# Altium footprint library 2440PCBV50.PcbLib: 115 footprints (part 2 of 8)
Each footprint in its own frame and in the unit in brackets; x right, y up, seen from the top. Pads: shape width x height; smd on the part's side, far side on the other; paste and mask are expansions set on the pad; w line width, h text height; cw(c..) or ccw(c..) is an arc to the next point about the centre after c.
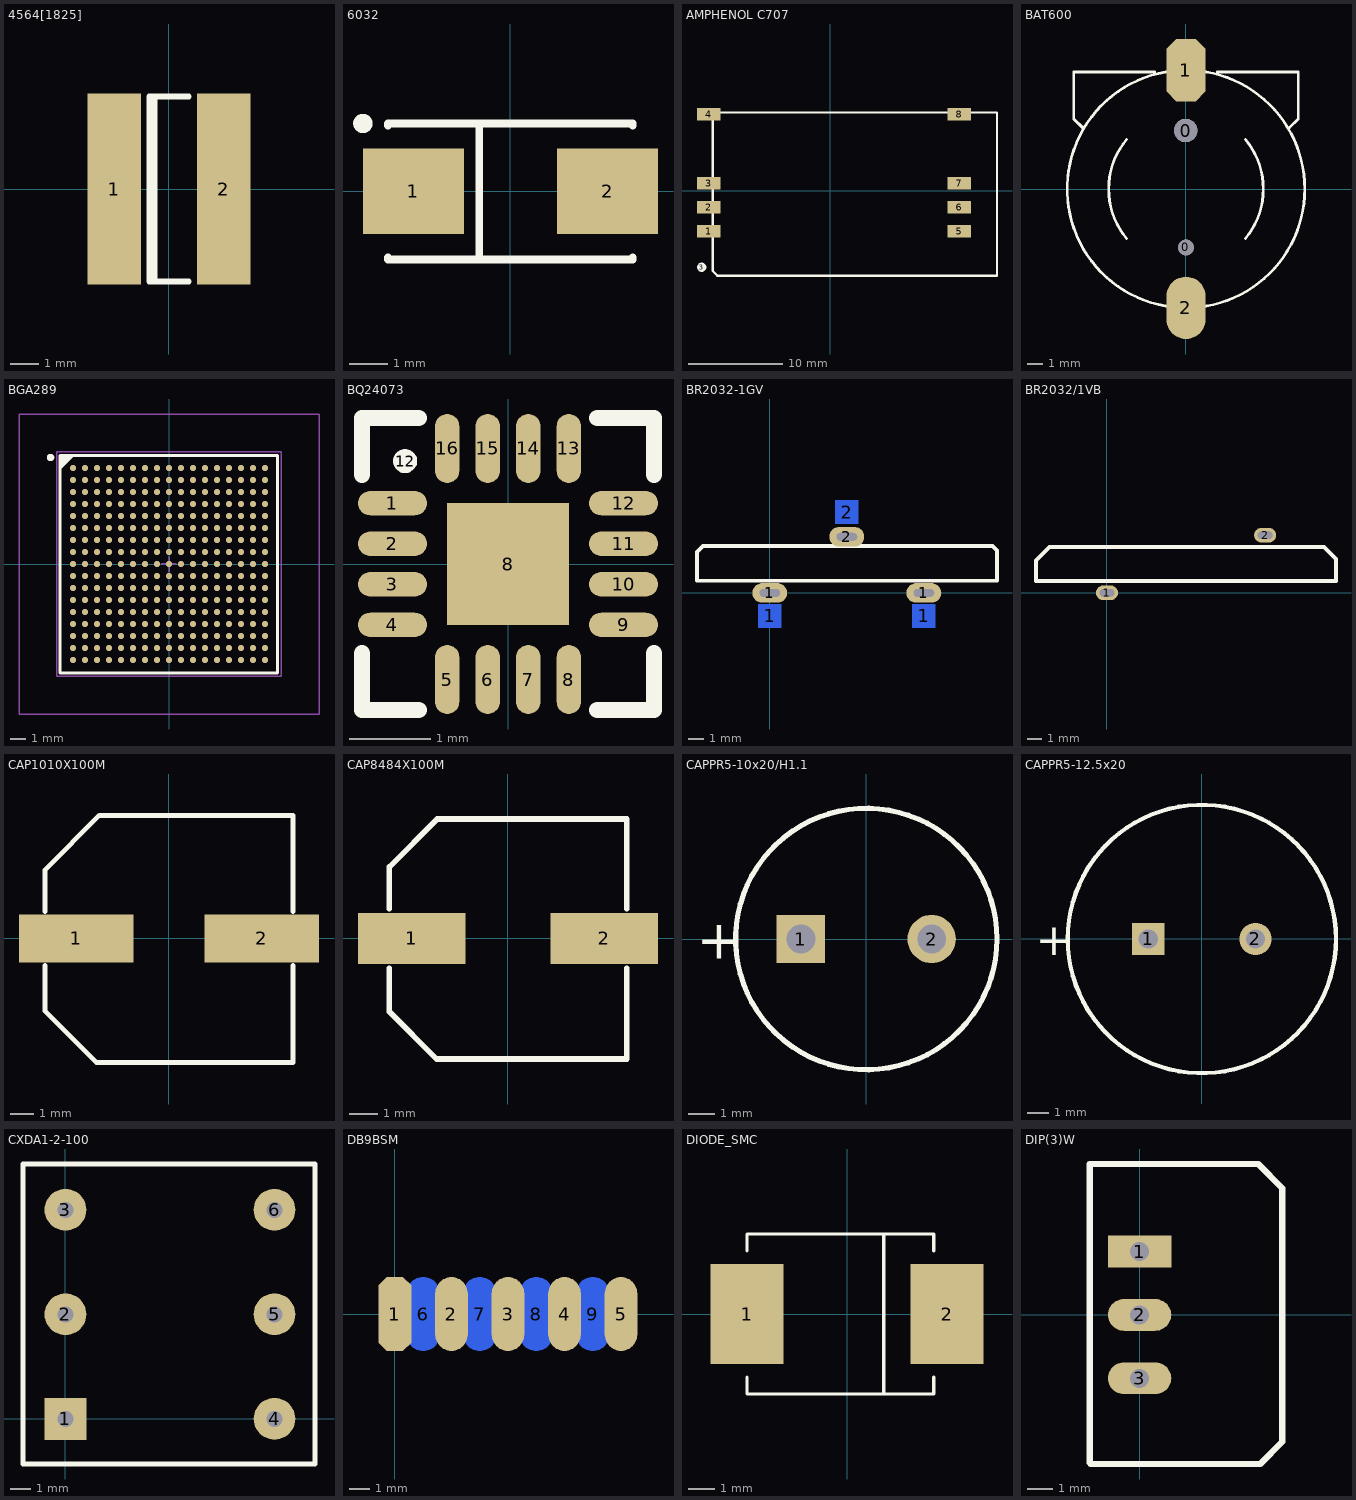
[diagram p1: the footprints below, top view; thin cyan lines are the x and y axes]

## 4564[1825] [mm] "Chip Capacitor; Body 4.5 x 6.4 mm (LxW typ)"
height 1.1
pads (2):
  rect 1.9x6.8 smd: 1(-1.95,0) 2(1.95,0)
Top Overlay:
  lines w0.2: -0.51,-3.3 -0.51,3.3 ; 0.7,-3.3 -0.7,-3.3 -0.7,3.3 0.7,3.3

## 6032 [mm]
height 3.4
pads (2):
  rect 2.6x2.2 smd: 1(-2.5,0) 2(2.5,0)
Top Overlay:
  circle w0.25: c-3.8,1.75 r0.125
  lines w0.2: -3.15,-1.7 -3.15,-1.75 3.15,-1.75 3.15,-1.7 ; -3.15,1.7 -3.15,1.75 3.15,1.75 3.15,1.7 ; -0.8,-1.75 -0.8,1.75
3D body: height 2.22, standoff -0.47, extent -3.13,-1.556 3.055,1.649

## AMPHENOL C707 [mm]
pads (9):
  rect 2.5x1.3 smd: 1(-12.869,-4.295) 2(-12.869,-1.755) 3(-12.869,0.785) 4(-12.869,8.105) 5(13.631,-4.295) 6(13.631,-1.755) 7(13.631,0.785) 8(13.631,8.105)
  round 1 on Top Overlay: 3(-13.631,-8.105)
Top Overlay:
  lines w0.254: -12.469,-8.505 -11.98,-8.994 17.631,-8.994 17.631,8.278 -11.98,8.278 -12.469,7.789 -12.469,7.77 -12.469,-8.505

## BAT600 [mm]
pads (4):
  round 1.5 hole 1.5 unplated: 0(-0.012,3.75)
  round 1 hole 1 unplated: 0(0.012,-3.75)
  oct 2.5x4 smd: 1(0.012,7.62)
  oval 2.5x4 smd: 2(0.012,-7.62)
Top Overlay:
  lines w0.178: -6.612,3.925 -7.187,4.5 -7.187,7.5 -1.987,7.5 ; -3.8,-3.172 cw(c0.013,0) -3.797,3.175 ; -0.821,-7.574 cw(c0.013,0) -0.821,7.574 ; 0.846,-7.574 ccw(c0.013,0) 7.633,0 ccw(c0.013,0) 0.846,7.574 ; 2.012,7.5 7.212,7.5 7.212,4.5 6.612,3.9 ; 3.825,-3.172 ccw(c0.013,0) 3.827,3.169
3D body: height 3.5, standoff 0, extent -7.62,-7.574 7.62,7.5

## BGA289 [mm] "BGA, 289-Leads, Body 14."
height 1.22
pads (289):
  round 0.4 smd: A1(-6.4,6.4) A2(-5.6,6.4) A3(-4.8,6.4) A4(-4,6.4) A5(-3.2,6.4) A6(-2.4,6.4) A7(-1.6,6.4) A8(-0.8,6.4) A9(0,6.4) A10(0.8,6.4) A11(1.6,6.4) A12(2.4,6.4) A13(3.2,6.4) A14(4,6.4) A15(4.8,6.4) A16(5.6,6.4) A17(6.4,6.4) B1(-6.4,5.6) B2(-5.6,5.6) B3(-4.8,5.6) B4(-4,5.6) B5(-3.2,5.6) B6(-2.4,5.6) B7(-1.6,5.6) B8(-0.8,5.6) B9(0,5.6) B10(0.8,5.6) B11(1.6,5.6) B12(2.4,5.6) B13(3.2,5.6) B14(4,5.6) B15(4.8,5.6) B16(5.6,5.6) B17(6.4,5.6) C1(-6.4,4.8) C2(-5.6,4.8) C3(-4.8,4.8) C4(-4,4.8) C5(-3.2,4.8) C6(-2.4,4.8) C7(-1.6,4.8) C8(-0.8,4.8) C9(0,4.8) C10(0.8,4.8) C11(1.6,4.8) C12(2.4,4.8) C13(3.2,4.8) C14(4,4.8) C15(4.8,4.8) C16(5.6,4.8) C17(6.4,4.8) D1(-6.4,4) D2(-5.6,4) D3(-4.8,4) D4(-4,4) D5(-3.2,4) D6(-2.4,4) D7(-1.6,4) D8(-0.8,4) D9(0,4) D10(0.8,4) D11(1.6,4) D12(2.4,4) D13(3.2,4) D14(4,4) D15(4.8,4) D16(5.6,4) D17(6.4,4) E1(-6.4,3.2) E2(-5.6,3.2) E3(-4.8,3.2) E4(-4,3.2) E5(-3.2,3.2) E6(-2.4,3.2) E7(-1.6,3.2) E8(-0.8,3.2) E9(0,3.2) E10(0.8,3.2) E11(1.6,3.2) E12(2.4,3.2) E13(3.2,3.2) E14(4,3.2) E15(4.8,3.2) E16(5.6,3.2) E17(6.4,3.2) F1(-6.4,2.4) F2(-5.6,2.4) F3(-4.8,2.4) F4(-4,2.4) F5(-3.2,2.4) F6(-2.4,2.4) F7(-1.6,2.4) F8(-0.8,2.4) F9(0,2.4) F10(0.8,2.4) F11(1.6,2.4) F12(2.4,2.4) F13(3.2,2.4) F14(4,2.4) F15(4.8,2.4) F16(5.6,2.4) F17(6.4,2.4) G1(-6.4,1.6) G2(-5.6,1.6) G3(-4.8,1.6) G4(-4,1.6) G5(-3.2,1.6) G6(-2.4,1.6) G7(-1.6,1.6) G8(-0.8,1.6) G9(0,1.6) G10(0.8,1.6) G11(1.6,1.6) G12(2.4,1.6) G13(3.2,1.6) G14(4,1.6) G15(4.8,1.6) G16(5.6,1.6) G17(6.4,1.6) H1(-6.4,0.8) H2(-5.6,0.8) H3(-4.8,0.8) H4(-4,0.8) H5(-3.2,0.8) H6(-2.4,0.8) H7(-1.6,0.8) H8(-0.8,0.8) H9(0,0.8) H10(0.8,0.8) H11(1.6,0.8) H12(2.4,0.8) H13(3.2,0.8) H14(4,0.8) H15(4.8,0.8) H16(5.6,0.8) H17(6.4,0.8) J1(-6.4,0) J2(-5.6,0) J3(-4.8,0) J4(-4,0) J5(-3.2,0) J6(-2.4,0) J7(-1.6,0) J8(-0.8,0) J9(0,0) J10(0.8,0) J11(1.6,0) J12(2.4,0) J13(3.2,0) J14(4,0) J15(4.8,0) J16(5.6,0) J17(6.4,0) K1(-6.4,-0.8) K2(-5.6,-0.8) K3(-4.8,-0.8) K4(-4,-0.8) K5(-3.2,-0.8) K6(-2.4,-0.8) K7(-1.6,-0.8) K8(-0.8,-0.8) K9(0,-0.8) K10(0.8,-0.8) K11(1.6,-0.8) K12(2.4,-0.8) K13(3.2,-0.8) K14(4,-0.8) K15(4.8,-0.8) K16(5.6,-0.8) K17(6.4,-0.8) L1(-6.4,-1.6) L2(-5.6,-1.6) L3(-4.8,-1.6) L4(-4,-1.6) L5(-3.2,-1.6) L6(-2.4,-1.6) L7(-1.6,-1.6) L8(-0.8,-1.6) L9(0,-1.6) L10(0.8,-1.6) L11(1.6,-1.6) L12(2.4,-1.6) L13(3.2,-1.6) L14(4,-1.6) L15(4.8,-1.6) L16(5.6,-1.6) L17(6.4,-1.6) M1(-6.4,-2.4) M2(-5.6,-2.4) M3(-4.8,-2.4) M4(-4,-2.4) M5(-3.2,-2.4) M6(-2.4,-2.4) M7(-1.6,-2.4) M8(-0.8,-2.4) M9(0,-2.4) M10(0.8,-2.4) M11(1.6,-2.4) M12(2.4,-2.4) M13(3.2,-2.4) M14(4,-2.4) M15(4.8,-2.4) M16(5.6,-2.4) M17(6.4,-2.4) N1(-6.4,-3.2) N2(-5.6,-3.2) N3(-4.8,-3.2) N4(-4,-3.2) N5(-3.2,-3.2) N6(-2.4,-3.2) N7(-1.6,-3.2) N8(-0.8,-3.2) N9(0,-3.2) N10(0.8,-3.2) N11(1.6,-3.2) N12(2.4,-3.2) N13(3.2,-3.2) N14(4,-3.2) N15(4.8,-3.2) N16(5.6,-3.2) N17(6.4,-3.2) P1(-6.4,-4) P2(-5.6,-4) P3(-4.8,-4) P4(-4,-4) P5(-3.2,-4) P6(-2.4,-4) P7(-1.6,-4) P8(-0.8,-4) P9(0,-4) P10(0.8,-4) P11(1.6,-4) P12(2.4,-4) P13(3.2,-4) P14(4,-4) P15(4.8,-4) P16(5.6,-4) P17(6.4,-4) R1(-6.4,-4.8) R2(-5.6,-4.8) R3(-4.8,-4.8) R4(-4,-4.8) R5(-3.2,-4.8) R6(-2.4,-4.8) R7(-1.6,-4.8) R8(-0.8,-4.8) R9(0,-4.8) R10(0.8,-4.8) R11(1.6,-4.8) R12(2.4,-4.8) R13(3.2,-4.8) R14(4,-4.8) R15(4.8,-4.8) R16(5.6,-4.8) R17(6.4,-4.8) T1(-6.4,-5.6) T2(-5.6,-5.6) T3(-4.8,-5.6) T4(-4,-5.6) T5(-3.2,-5.6) T6(-2.4,-5.6) T7(-1.6,-5.6) T8(-0.8,-5.6) T9(0,-5.6) T10(0.8,-5.6) T11(1.6,-5.6) T12(2.4,-5.6) T13(3.2,-5.6) T14(4,-5.6) T15(4.8,-5.6) T16(5.6,-5.6) T17(6.4,-5.6) U1(-6.4,-6.4) U2(-5.6,-6.4) U3(-4.8,-6.4) U4(-4,-6.4) U5(-3.2,-6.4) U6(-2.4,-6.4) U7(-1.6,-6.4) U8(-0.8,-6.4) U9(0,-6.4) U10(0.8,-6.4) U11(1.6,-6.4) U12(2.4,-6.4) U13(3.2,-6.4) U14(4,-6.4) U15(4.8,-6.4) U16(5.6,-6.4) U17(6.4,-6.4)
Top Overlay:
  circle w0.25: c-7.9,7.1 r0.125
  region: -6.399,7.25 -7.25,6.399 -7.25,7.25
  lines w0.2: -7.25,6.399 -6.399,7.25 ; -7.25,-7.25 7.25,-7.25 7.25,7.25 -7.25,7.25 -7.25,-7.25
Mechanical 1:
  lines w0.1: -10,-10 10,-10 10,10 -10,10 -10,-10
Mechanical 13:
  lines w0.1: -7.25,-7.25 7.25,-7.25 7.25,7.25 -7.25,7.25 -7.25,-7.25
Mechanical 15:
  lines w0.1: -0.5,0 0.5,0 ; 0,-0.5 0,0.5 ; -7.5,-7.5 7.5,-7.5 7.5,7.5 -7.5,7.5 -7.5,-7.5
3D body: height 1.22, standoff 0.35, extent -7.25,-7.25 7.25,7.25

## BQ24073 [mm]
pads (23):
  oval 0.85x0.3 smd: 1(-1.425,0.75) 2(-1.425,0.25) 3(-1.425,-0.25) 4(-1.425,-0.75) 9(1.425,-0.75) 10(1.425,-0.25) 11(1.425,0.25) 12(1.425,0.75)
  oval 0.3x0.85 smd: 5(-0.75,-1.425) 6(-0.25,-1.425) 7(0.25,-1.425) 8(0.75,-1.425) 13(0.75,1.425) 14(0.25,1.425) 15(-0.25,1.425) 16(-0.75,1.425)
  rect 1.5x1.5 smd: 8(0,0)
  round 0.3 on Top Overlay: 12(-1.27,1.27)
  round 0.25 all layers, no hole: ""(-0.508,-0.508) ""(-0.508,0.508) ""(0,0) ""(0.508,-0.508) ""(0.508,0.508)
Top Overlay:
  lines w0.2: -1.8,-1.1 -1.8,-1.8 -1.1,-1.8 ; -1.8,1.1 -1.8,1.8 -1.1,1.8 ; 1.1,-1.8 1.8,-1.8 1.8,-1.1 ; 1.1,1.8 1.8,1.8 1.8,1.1

## BR2032-1GV [mm] "CR2032-1GV"
pads (6):
  rect 1.52x1.524 smd far side: 1(0,-1.524) 1(10.16,-1.524) 2(5.08,5.334)
  oval 2.3x1.3 hole 0.5 slot 1.35 at 0 deg: 1(0,0) 1(10.16,0) 2(5.08,3.7)
Top Overlay:
  lines w0.254: -4.8,0.8 -4.8,2.693 -4.393,3.1 14.68,3.1 14.986,2.794 14.986,0.8 -4.8,0.8
3D body: height 21.51, standoff -3.5, extent -4.928,-0.101 15.088,3.707

## BR2032/1VB [mm] "BR/CR2032/1VB"
pads (2):
  oval 1.5x1 hole 0.5 slot 1 at 0 deg: 1(0,0) 2(10.7,3.9)
Top Overlay:
  lines w0.254: -4.8,0.8 -4.8,2.185 -3.885,3.1 14.68,3.1 15.494,2.286 15.494,0.8 -4.8,0.8
3D body: height 21.51, standoff -3.5, extent -4.673,0.153 15.342,3.961

## CAP1010X100M [mm]
height 10
pads (2):
  rect 4.8x2 smd: 1(-3.9,0) 2(3.9,0)
Top Overlay:
  lines w0.2: -5.207,-1.125 -5.207,-3.049 -3.042,-5.214 5.207,-5.214 5.207,-1.125 ; -5.207,1.125 -5.207,2.891 -2.929,5.169 5.207,5.169 5.207,1.125
3D body: height 10.2, standoff 0, extent -5.839,-5.19 5.761,5.11

## CAP8484X100M [mm]
height 10
pads (2):
  rect 3.8x1.8 smd: 1(-3.4,0) 2(3.4,0)
Top Overlay:
  lines w0.2: -4.191,-1.05 -4.191,-2.594 -2.522,-4.263 4.191,-4.263 4.191,-1.05 ; -4.191,1.05 -4.191,2.527 -2.499,4.219 4.191,4.219 4.191,1.05
3D body: height 6.2, standoff 0, extent -4.554,-4.155 4.446,4.145

## CAPPR5-10x20/H1.1 [mm] "Capacitor, Electrolytic, Radial; Body 10 x 20 mm (Dia.xH typ); Pin Spacing 5 mm (typ)"
height 21
pads (2):
  rect 1.85x1.85 hole 1.1: 1(-2.5,0)
  round 1.85 hole 1.1: 2(2.5,0)
Top Overlay:
  circle w0.2: c0,0 r5
  text "+" at -6.475,-0.75 h1.5

## CAPPR5-12.5x20 [mm] "Capacitor, Electrolytic, Radial; Body 12.5 x 20 mm (Dia.xH typ); Pin Spacing 5 mm (typ)"
height 21.5
pads (2):
  rect 1.5x1.5 hole 0.9: 1(-2.5,0)
  round 1.5 hole 0.9: 2(2.5,0)
Top Overlay:
  circle w0.2: c0,0 r6.25
  text "+" at -7.725,-0.75 h1.5

## CXDA1-2-100 [mm]
pads (6):
  rect 2x2 hole 0.762: 1(0,0)
  round 2 hole 0.762: 2(0,5) 3(0,10) 4(10,0) 5(10,5) 6(10,10)
Top Overlay:
  lines w0.254: -2.032,-2.159 -2.032,12.192 11.938,12.192 11.938,-2.159 -2.032,-2.159

## DB9BSM [mil]
pads (9):
  oct 62.5x141.67 smd: 1(0,0)
  oval 62.5x141.67 smd: 2(108.33,0) 3(216.67,0) 4(325,0) 5(433.33,0)
  oval 62.5x141.67 smd far side: 6(54.17,0) 7(162.5,0) 8(270.83,0) 9(379.17,0)

## DIODE_SMC [mil] "DO-214-AB/SMC; 2 C-Bend Leads; Body 7.9 x 5.9 mm, inc. leads (LxW)"
pads (2):
  rect 110x150 smd: 1(-150,0) 2(150,0)
Top Overlay:
  lines w5: -150,-95 -150,-120 130,-120 130,-95 ; -150,95 -150,120 130,120 130,95 ; 55,-120 55,120
3D body: height 50, standoff -54, extent -168.27,-124.38 151.73,123.62

## DIP(3)W [mil]
pads (3):
  rect 100x50 hole 30: 1(0,100)
  oval 100x50 hole 30: 2(0,0) 3(0,-100)
Top Overlay:
  lines w10: -78.74,-233.26 -78.74,238 187,238 225,200 225,-200 190,-235 -77,-235 -78.74,-233.26
3D body: height 393.7, standoff 0, extent -80.16,-233.96 226.32,238.24